# Altium footprint library Modules.PcbLib: 4 footprints
Each footprint in its own frame and in the unit in brackets; x right, y up, seen from the top. Pads: shape width x height; smd on the part's side, far side on the other; paste and mask are expansions set on the pad; w line width, h text height; cw(c..) or ccw(c..) is an arc to the next point about the centre after c.
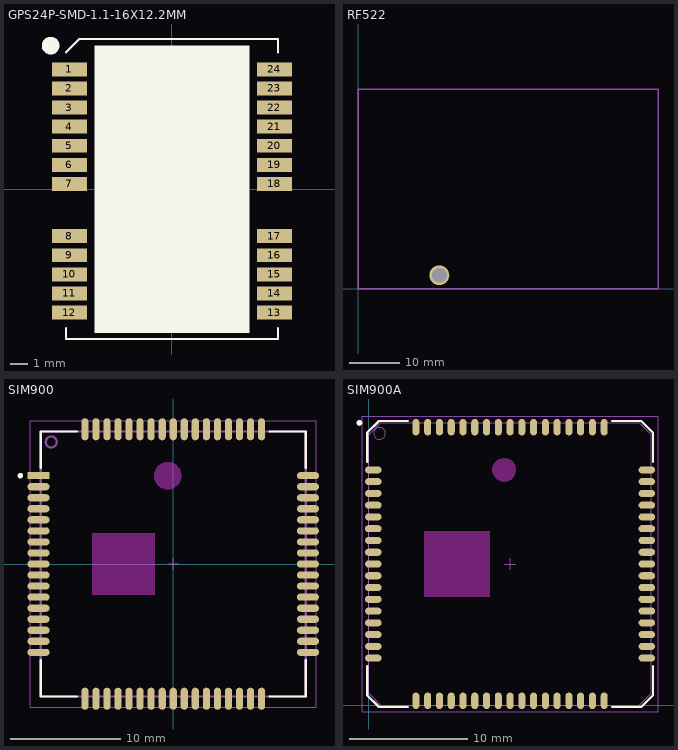
[diagram p0: the footprints below, top view; thin cyan lines are the x and y axes]

## GPS24P-SMD-1.1-16X12.2MM [mm]
pads (24):
  rect 2x0.8 smd: 1(-5.904,6.888) 2(-5.904,5.788) 3(-5.904,4.688) 4(-5.904,3.588) 5(-5.904,2.488) 6(-5.904,1.388) 7(-5.904,0.288) 8(-5.904,-2.712) 9(-5.904,-3.812) 10(-5.904,-4.912) 11(-5.904,-6.012) 12(-5.904,-7.112) 13(5.896,-7.112) 14(5.896,-6.012) 15(5.896,-4.912) 16(5.896,-3.812) 17(5.896,-2.712) 18(5.896,0.288) 19(5.896,1.388) 20(5.896,2.488) 21(5.896,3.588) 22(5.896,4.688) 23(5.896,5.788) 24(5.896,6.888)
Top Overlay:
  circle w0.508: c-6.985,8.255 r0.254
  region: -4.456,8.255 4.445,8.255 4.445,-8.276 -4.456,-8.276
  lines w0.127: -6.096,-8.001 -6.096,-8.636 6.096,-8.636 6.096,-8.001 ; -6.096,7.874 -5.334,8.636 6.096,8.636 6.096,7.874
3D body "UBLOX_GPS_NEO-6M.step": height 2.64, standoff 0, extent -6.18,-8.4 6.18,8.2

## RF522 [mm] "RFID"
pads (1):
  round 4 hole 3: ""(16.25,2.75)
Mechanical 15:
  lines w0.254: 0,0 60,0 60,40 0,40 0,0
3D body "RFID.STEP": height 3.74, standoff -7.8, extent 0,0 60,40

## SIM900 [mm] "QFN, 68-Leads, Body 24,0x24,0mm (max), Pitch 1,00mm, IPC Low Density"
height 1
pads (68):
  rect 2x0.65 smd: 1(-12.2,8)
  oval 2x0.65 smd: 2(-12.2,7) 3(-12.2,6) 4(-12.2,5) 5(-12.2,4) 6(-12.2,3) 7(-12.2,2) 8(-12.2,1) 9(-12.2,0) 10(-12.2,-1) 11(-12.2,-2) 12(-12.2,-3) 13(-12.2,-4) 14(-12.2,-5) 15(-12.2,-6) 16(-12.2,-7) 17(-12.2,-8) 35(12.2,-8) 36(12.2,-7) 37(12.2,-6) 38(12.2,-5) 39(12.2,-4) 40(12.2,-3) 41(12.2,-2) 42(12.2,-1) 43(12.2,0) 44(12.2,1) 45(12.2,2) 46(12.2,3) 47(12.2,4) 48(12.2,5) 49(12.2,6) 50(12.2,7) 51(12.2,8)
  oval 0.65x2 smd: 18(-8,-12.2) 19(-7,-12.2) 20(-6,-12.2) 21(-5,-12.2) 22(-4,-12.2) 23(-3,-12.2) 24(-2,-12.2) 25(-1,-12.2) 26(0,-12.2) 27(1,-12.2) 28(2,-12.2) 29(3,-12.2) 30(4,-12.2) 31(5,-12.2) 32(6,-12.2) 33(7,-12.2) 34(8,-12.2) 52(8,12.2) 53(7,12.2) 54(6,12.2) 55(5,12.2) 56(4,12.2) 57(3,12.2) 58(2,12.2) 59(1,12.2) 60(0,12.2) 61(-1,12.2) 62(-2,12.2) 63(-3,12.2) 64(-4,12.2) 65(-5,12.2) 66(-6,12.2) 67(-7,12.2) 68(-8,12.2)
Top Layer keep-out:
  circle w1.5: c-0.5,8 r0.5
  rectangle: -7.366,-2.794 -1.651,2.794
Top Overlay:
  circle w0.25: c-13.841,8.001 r0.125
  lines w0.2: -12,-8.725 -12,-12 -8.725,-12 ; -12,8.725 -12,12 -8.725,12 ; 8.725,-12 12,-12 12,-8.725 ; 8.725,12 12,12 12,8.725
Mechanical 13:
  circle w0.2: c-11.05,11.05 r0.5
  lines w0.2: -12,-12 12,-12 12,12 -12,12 -12,-12
  text ".Designator" at -9.144,8.763 h1.5
Mechanical 15:
  lines w0.1: -0.5,0 0.5,0 ; 0,-0.5 0,0.5 ; -12.95,-12.95 12.95,-12.95 12.95,12.95 -12.95,12.95 -12.95,-12.95
3D body "User Library-GSM_SIM900.STEP": height 3, standoff 0, extent -12,-12 12,12

## SIM900A [mm] "SIM900A, 68-Leads, Body 24,00x24,00mm, Pitch 1,00mm, IPC Medium Density"
height 3
pads (68):
  oval 1.4x0.6 smd: 1(0.375,20) 2(0.375,19) 3(0.375,18) 4(0.375,17) 5(0.375,16) 6(0.375,15) 7(0.375,14) 8(0.375,13) 9(0.375,12) 10(0.375,11) 11(0.375,10) 12(0.375,9) 13(0.375,8) 14(0.375,7) 15(0.375,6) 16(0.375,5) 17(0.375,4) 35(23.625,4) 36(23.625,5) 37(23.625,6) 38(23.625,7) 39(23.625,8) 40(23.625,9) 41(23.625,10) 42(23.625,11) 43(23.625,12) 44(23.625,13) 45(23.625,14) 46(23.625,15) 47(23.625,16) 48(23.625,17) 49(23.625,18) 50(23.625,19) 51(23.625,20)
  oval 0.6x1.4 smd: 18(4,0.375) 19(5,0.375) 20(6,0.375) 21(7,0.375) 22(8,0.375) 23(9,0.375) 24(10,0.375) 25(11,0.375) 26(12,0.375) 27(13,0.375) 28(14,0.375) 29(15,0.375) 30(16,0.375) 31(17,0.375) 32(18,0.375) 33(19,0.375) 34(20,0.375) 52(20,23.625) 53(19,23.625) 54(18,23.625) 55(17,23.625) 56(16,23.625) 57(15,23.625) 58(14,23.625) 59(13,23.625) 60(12,23.625) 61(11,23.625) 62(10,23.625) 63(9,23.625) 64(8,23.625) 65(7,23.625) 66(6,23.625) 67(5,23.625) 68(4,23.625)
Top Layer keep-out:
  rectangle: 4.7,9.2 10.3,14.8
  region: 10.5,20 10.5,19.902 10.538,19.708 10.614,19.526 10.723,19.363 10.863,19.223 11.026,19.114 11.208,19.038 11.402,19 11.5,19 11.598,19 11.792,19.038 11.974,19.114 12.137,19.223 12.277,19.363 12.386,19.526 12.462,19.708 12.5,19.902 12.5,20 12.5,20.098 12.462,20.292 12.386,20.474 12.277,20.637 12.137,20.777 11.974,20.886 11.792,20.962 11.598,21 11.5,21 11.402,21 11.208,20.962 11.026,20.886 10.863,20.777 10.723,20.637 10.614,20.474 10.538,20.292 10.5,20.098
Top Overlay:
  circle w0.25: c-0.8,24 r0.125
  lines w0.2: -0.15,3.3 -0.15,0.85 0.85,-0.15 3.3,-0.15 ; -0.15,20.7 -0.15,23.15 0.85,24.15 3.3,24.15 ; 20.7,-0.15 23.15,-0.15 24.15,0.85 24.15,3.3 ; 20.7,24.15 23.15,24.15 24.15,23.15 24.15,20.7
Mechanical 13:
  circle w0.1: c0.9,23.1 r0.5
  lines w0.1: 0,1 0,23 1,24 23,24 24,23 24,1 23,0 1,0 0,1
Mechanical 15:
  lines w0.05: -0.575,-0.575 24.575,-0.575 24.575,24.575 -0.575,24.575 -0.575,-0.575
  lines w0.1: 11.5,12 12.5,12 ; 12,11.5 12,12.5
3D body "User Library-GSM_SIM900.step": height 3, standoff 0, extent 0,0 24,24